# EAGLE library part BASE-PADS (library Modulo)
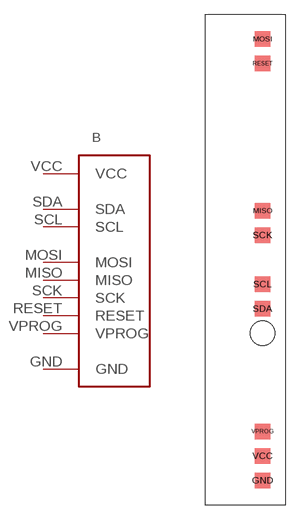
[diagram p13: symbol with the pads of BASE-PADS; footprint BASE-PADS]

Designator prefix B

## BASE-PADS  [BASE-PADS]
GND  GND
MISO  MISO
MOSI  MOSI
RESET  RESET
SCK  SCK
SCL  SCL
SDA  SDA
VCC  VCC
VPROG  VPROG

## Footprint BASE-PADS (pad centres in mm)
smd 1.6 x 1.6: GND 1.778,-22.86; MISO 1.778,5.08; MOSI 1.778,22.86; RESET 1.778,20.32; SCK 1.778,2.54; SCL 1.778,-2.54; SDA 1.778,-5.08; VCC 1.778,-20.32; VPROG 1.778,-17.78
hole 2.54 at 1.778,-7.62